# Altium footprint library mylib.PcbLib: 214 footprints (part 10 of 14)
Each footprint in its own frame and in the unit in brackets; x right, y up, seen from the top. Pads: shape width x height; smd on the part's side, far side on the other; paste and mask are expansions set on the pad; w line width, h text height; cw(c..) or ccw(c..) is an arc to the next point about the centre after c.
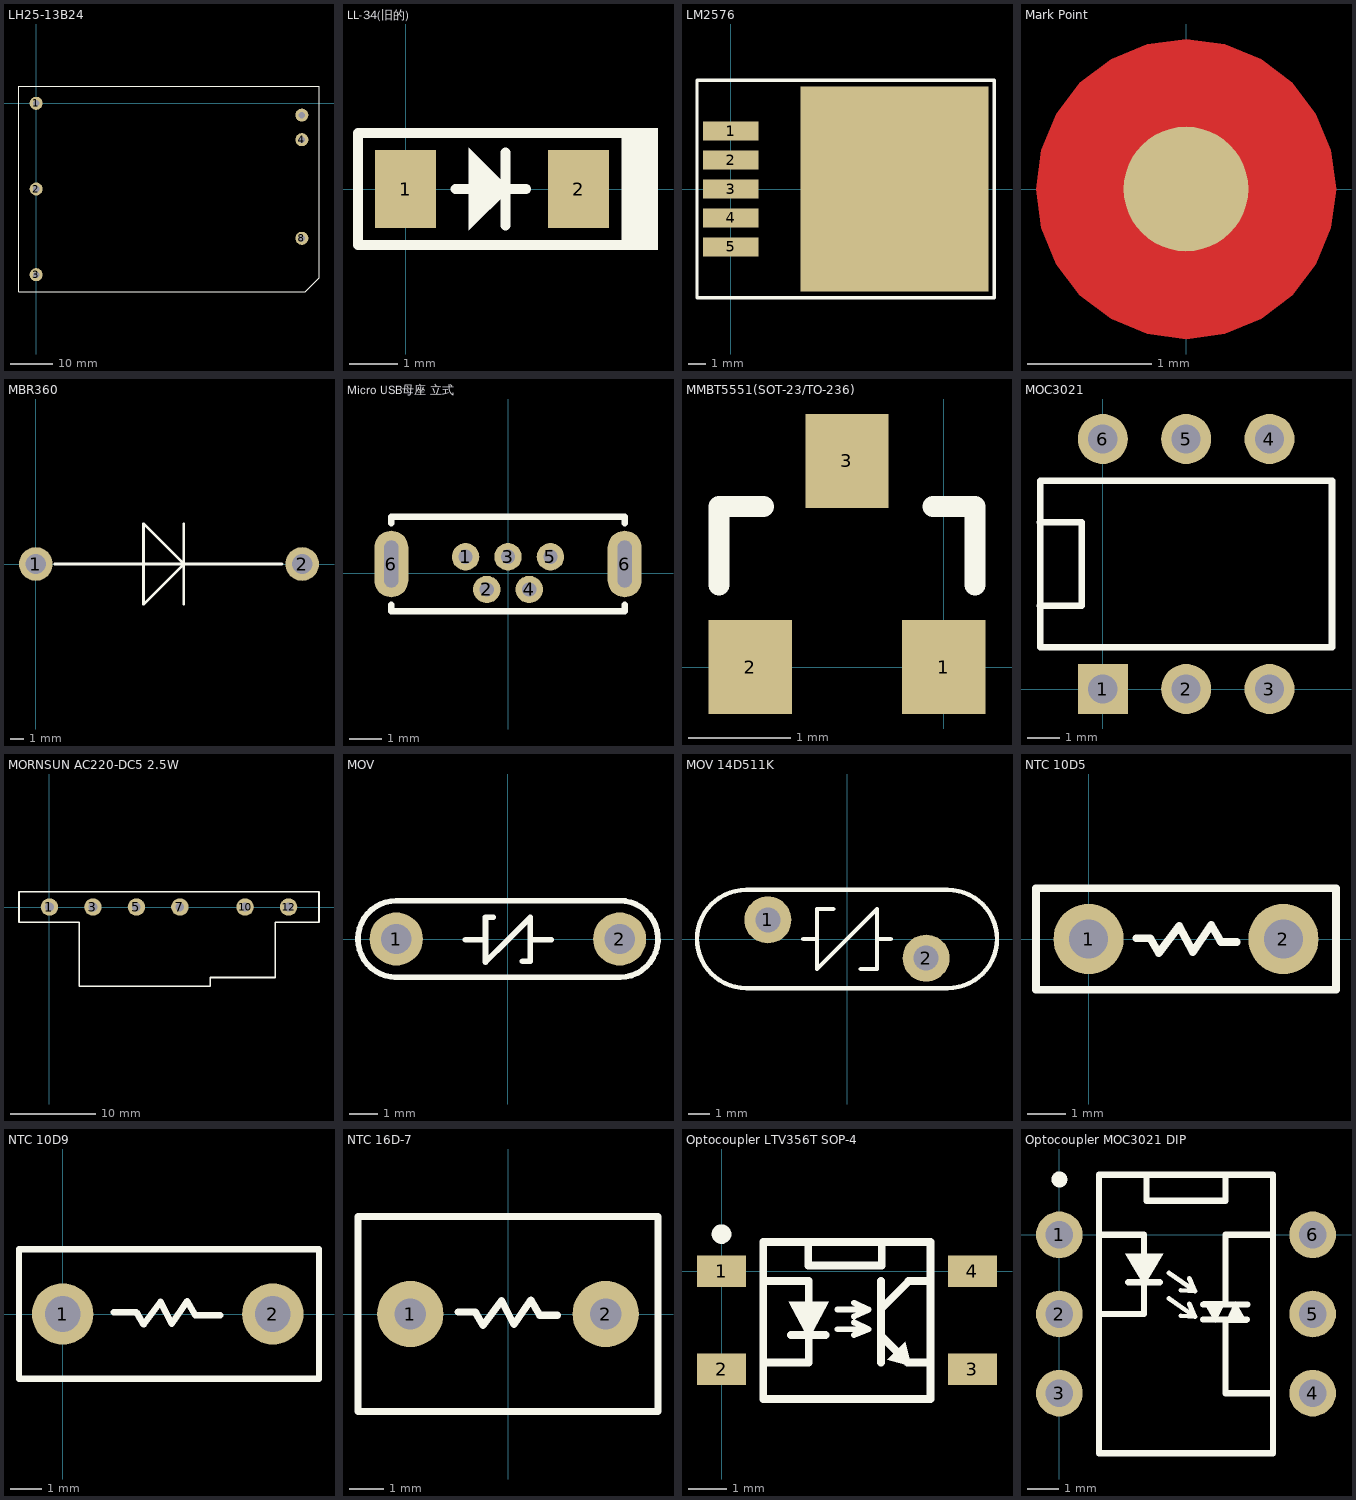
[diagram p9: the footprints below, top view; thin cyan lines are the x and y axes]

## LH25-13B24 [mil]
pads (6):
  round 120 hole 60: 1(0,0) 2(0,-787.4) 3(0,-1574.8) 4(2440.94,-334.65) 8(2440.94,-1240.16) Trim(2440.94,-108.27)
Top Overlay:
  lines w8: -157.48,-1732.28 -157.48,157.48 2598.43,157.48 2598.43,-1604.45 2470.59,-1732.28 -157.48,-1732.28

## LL-34(旧的) [mil]
pads (2):
  rect 50x64 smd: 1(0,0) 2(142,0)
Top Overlay:
  rectangle: 177,-50 207,50
  region: 52,34 86,0 52,-34
  lines w8: 41,0 56,0 ; 82,-30 82,30 ; 83,0 99,0 ; -39,-46 -39,46 181,46 181,-46 -39,-46

## LM2576 [mil]
pads (6):
  rect 128x44 smd: 1(0,133.86) 2(0,66.93) 3(0,0) 4(0,-66.93) 5(0,-133.86)
  rect 434x474 smd: ""(378,0)
Top Overlay:
  lines w8: -78,-251 609,-251 609,251 -78,251 -78,148.87 -78,-251

## Mark Point [mm]
pads (1):
  round 1 smd mask+0.6: ""(0,0)
Top Layer:
  pour cut-out: -1.204,0 -1.163,-0.312 -1.043,-0.602 -0.851,-0.851 -0.602,-1.043 -0.312,-1.163 0,-1.204 0.312,-1.163 0.602,-1.043 0.851,-0.851 1.043,-0.602 1.163,-0.312 1.204,0 1.163,0.312 1.043,0.602 0.851,0.851 0.602,1.043 0.312,1.163 0,1.204 -0.312,1.163 -0.602,1.043 -0.851,0.851 -1.043,0.602 -1.163,0.312

## MBR360 [mm]
pads (2):
  round 2.5 hole 1.5: 1(0,0) 2(19.8,0)
Top Overlay:
  lines w0.203: 1.4,0 6,0 15,0 18.3,0 ; 11,-3 11,3 ; 8,-3 8,3 11,0 ; 8,-3 8,-3 ; 8,-3 11,0 ; 11,0 11,0

## Micro USB母座 立式 [mm]
pads (7):
  round 0.84 hole 0.44: 1(-1.3,0.5) 2(-0.65,-0.5) 3(0,0.5) 4(0.65,-0.5) 5(1.3,0.5)
  oval 1.04x2.04 hole 0.44 slot 1.44 at 90 deg: 6(-3.575,0.28) 6(3.575,0.28)
Top Overlay:
  lines w0.2: -3.575,-0.965 -3.575,-1.17 3.575,-1.17 3.575,-0.965 ; -3.575,1.525 -3.575,1.73 3.575,1.73 3.575,1.525

## MMBT5551(SOT-23/TO-236) [mil]
pads (3):
  rect 32x36 smd: 1(0,0) 2(-74,0) 3(-37,79)
Top Overlay:
  lines w8: -86,31.52 -86,61.52 -69,61.52 ; -4,61.52 12,61.52 12,31.52

## MOC3021 [mil]
pads (6):
  rect 60x60 hole 35: 1(0,0)
  round 60 hole 35: 2(100,0) 3(200,0) 4(200,300) 5(100,300) 6(0,300)
Top Overlay:
  lines w8: -75.42,100 -25.42,100 -25.42,200 -75.42,200 ; 275,50 -75.03,50 -75.03,250 275,250 ; 275.03,50 275.03,250

## MORNSUN AC220-DC5 2.5W [mil]
pads (6):
  round 80 hole 40: 1(0,0) 3(200,0) 5(400,0) 7(600,0) 10(900,0) 12(1100,0)
Top Overlay:
  lines w8: -140,-70 -140,70 1240,70 1240,-70 1039,-70 1039,-324 740,-324 740,-364 137,-364 137,-70 -140,-70

## MOV [mil]
pads (2):
  round 75 hole 43: 1(-157.48,0) 2(157.48,0)
Top Overlay:
  lines w8: -159.48,-54 158.48,-54 ; -157.48,-54.01 cw(c-157.48,0) -157.48,54.01 ; -156.48,54 157.48,54 ; -60,-1 -31.61,-1 ; -20.61,30.5 -31.61,30.5 -31.61,-32.5 -1.11,-2 ; -0.11,-1 31.39,30.5 31.39,-31.5 20.39,-31.5 ; 31.39,-1 61,-1 ; 157.48,54.08 cw(c157.48,0) 158.48,-54.07

## MOV 14D511K [mil]
pads (2):
  round 86 hole 46: 1(-145,35) 2(145,-35)
Top Overlay:
  lines w8: -80,0 -55,0 ; -25,55 -55,55 -55,-55 0,0 55,55 55,-55 25,-55 ; 55,0 80,0 ; -185,-90 cw(c-185,0) -185,90 185,90 cw(c185,0) 185,-90 -185,-90

## NTC 10D5 [mil]
pads (2):
  round 72 hole 40: 1(0,0) 2(200,0)
Top Overlay:
  lines w8: 49,0.79 63.26,0.79 72,-14.5 93,13.5 107,-13.5 126,14.5 135.97,-2.95 152,-2.95 ; -54,-52 -54,52 254,52 253.99,-52 -54,-52

## NTC 10D9 [mil]
pads (2):
  round 76 hole 44: 1(0,0) 2(259.84,0)
Top Overlay:
  lines w8: 63.29,2.29 91.26,2.29 100,-13 121,15 135,-12 154,16 163.97,-1.45 195,-1.45 ; -54,-80 -54,80 316.99,80 316.99,-80 -54,-80

## NTC 16D-7 [mm]
pads (2):
  round 1.9 hole 0.9: 1(-2.8,0) 2(2.8,0)
Top Overlay:
  lines w0.203: -1.428,0.058 -0.939,0.058 -0.717,-0.33 -0.184,0.381 0.172,-0.305 0.654,0.406 0.908,-0.037 1.416,-0.037 ; -4.3,-2.8 4.3,-2.8 4.3,2.8 -4.3,2.8 -4.3,-2.8

## Optocoupler LTV356T SOP-4 [mil]
pads (4):
  rect 50x32 smd: 1(0,0) 2(0,-100) 3(255.91,-100) 4(255.91,0)
Top Overlay:
  circle w10: c0,38 r5
  region: 68.64,-31 109.26,-31 88.95,-69
  region: 169,-90 187.41,-71.59 193.72,-96.58
  lines w6: 118.16,-59 149.95,-59 ; 118.16,-39 149.95,-39 ; 134.95,-65 149.95,-59 ; 134.95,-52 149.95,-59 ; 134.95,-46 149.95,-39 ; 134.95,-32 149.95,-39
  lines w8: 42.56,-93 88.95,-93 88.95,-10 42.56,-10 ; 70.95,-65 105.95,-65 ; 88.45,30 88.45,6 163.45,6 163.45,30 ; 162.8,-93 162.8,-10 ; 162.8,-66 189.8,-93 213.03,-93 ; 162.8,-38 190.8,-10 213.03,-10 ; 42.56,-130 213.03,-130 213.03,30 42.56,30 42.56,-130

## Optocoupler MOC3021 DIP [mil]
pads (6):
  round 59 hole 35: 1(0,0) 2(0,-100) 3(0,-200) 4(320,-200) 5(320,-100) 6(320,0)
Top Overlay:
  circle w10: c0,70 r5
  region: 83,-24 107,-64 131,-24
  region: 182,-84 197,-111 210,-84
  region: 237.5,-111 222.5,-84 209.5,-111
  lines w6: 138.41,-80.48 171.26,-103.48 ; 138.41,-48.18 171.26,-71.19 ; 153.47,-102.31 171.26,-103.48 ; 153.47,-70.01 171.26,-71.19 ; 164,-87 171.26,-103.48 ; 164,-54.7 171.26,-71.19
  lines w8: 50,-100 107,-100 107,0 50,0 ; 87,-60 127,-60 ; 110,76 110,43 210,43 210,76 ; 182,-107 237,-107 ; 182,-88 237.5,-88 ; 210,-111 210,-200 270,-200 ; 210,-84 210,0 270,0 ; 50,-276 50,76 270,76 270,-276 50,-276